# EAGLE library part HI3-574AKN-5Z (library Intersil_By_element14_Batch_1)
12-Bit A/D Converters
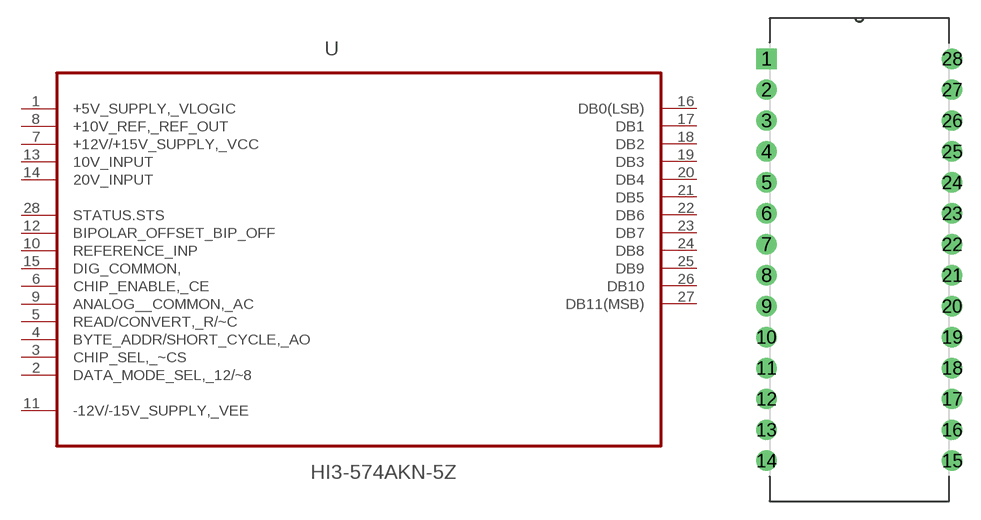
[diagram p129: symbol with the pads of DIP254P1524X635-28; footprint DIP254P1524X635-28]

Designator prefix U

## HI3-574AKN-5Z (MPN: HI3-574AKN-5Z; OC_FARNELL: 1561937; OC_NEWARK: 57K3841; PACKAGE: PDIP-28; SUPPLIER: INTERSIL)  [DIP254P1524X635-28]
1  +5V_SUPPLY,_VLOGIC  in
2  DATA_MODE_SEL,_12/~8  in
3  CHIP_SEL,_~CS  in
4  BYTE_ADDR/SHORT_CYCLE,_AO  in
5  READ/CONVERT,_R/~C  in
6  CHIP_ENABLE,_CE  in
7  +12V/+15V_SUPPLY,_VCC  in
8  +10V_REF,_REF_OUT  in
9  ANALOG__COMMON,_AC  in
10  REFERENCE_INP  in
11  -12V/-15V_SUPPLY,_VEE  pwr
12  BIPOLAR_OFFSET_BIP_OFF  in
13  10V_INPUT  in
14  20V_INPUT  in
15  DIG_COMMON,  in
16  DB0(LSB)  out
17  DB1  out
18  DB2  out
19  DB3  out
20  DB4  out
21  DB5  out
22  DB6  out
23  DB7  out
24  DB8  out
25  DB9  out
26  DB10  out
27  DB11(MSB)  out
28  STATUS.STS  in

## Footprint DIP254P1524X635-28 (pad centres in mm)
drill 1.118 square: 1 -15.24,33.02
drill 1.118: 2 -15.24,30.48; 3 -15.24,27.94; 4 -15.24,25.4; 5 -15.24,22.86; 6 -15.24,20.32; 7 -15.24,17.78; 8 -15.24,15.24; 9 -15.24,12.7; 10 -15.24,10.16; 11 -15.24,7.62; 12 -15.24,5.08; 13 -15.24,2.54; 14 -15.24,0; 15 0,0; 16 0,2.54; 17 0,5.08; 18 0,7.62; 19 0,10.16; 20 0,12.7; 21 0,15.24; 22 0,17.78; 23 0,20.32; 24 0,22.86; 25 0,25.4; 26 0,27.94; 27 0,30.48; 28 0,33.02